# EAGLE library part MINIFIT_5566-6 (library HyTechDevices)
Mini-Fit Junior connector 6 pole Source: http://www.molex.com
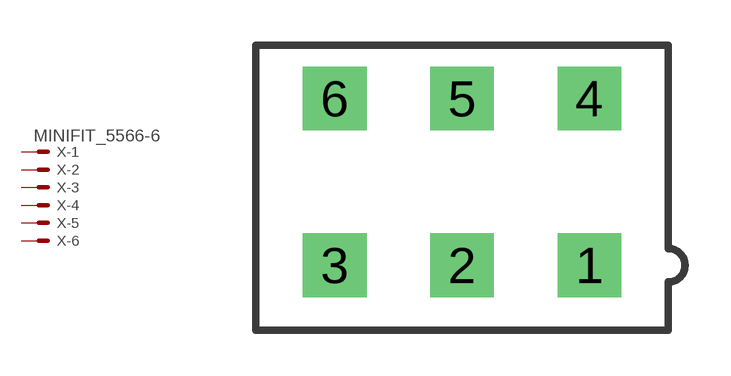
[diagram p23: symbol with the pads of MINIFIT_5566-6; footprint MINIFIT_5566-6]

Designator prefix X; gates -1=MV -2=M -3=M -4=M -5=M -6=M

## MINIFIT_5566-6 (MPN: 95566-61002; OC_FARNELL: unknown; OC_NEWARK: 22K8620)  [MINIFIT_5566-6]
1  -1:S  pas
2  -2:S  pas
3  -3:S  pas
4  -4:S  pas
5  -5:S  pas
6  -6:S  pas

## Footprint MINIFIT_5566-6 (pad centres in mm)
Mini-Fit Junior connector 6 pole Source: http://www.molex.com
drill 1.4 square: 1 4.2,-2.75; 2 0,-2.75; 3 -4.2,-2.75; 4 4.2,2.75; 5 0,2.75; 6 -4.2,2.75